# EAGLE library part TEENSY_3.5_PTH (library halcyonmod_Teensy)
Teensy 3.5 board, showing all pins that are "thru hole".
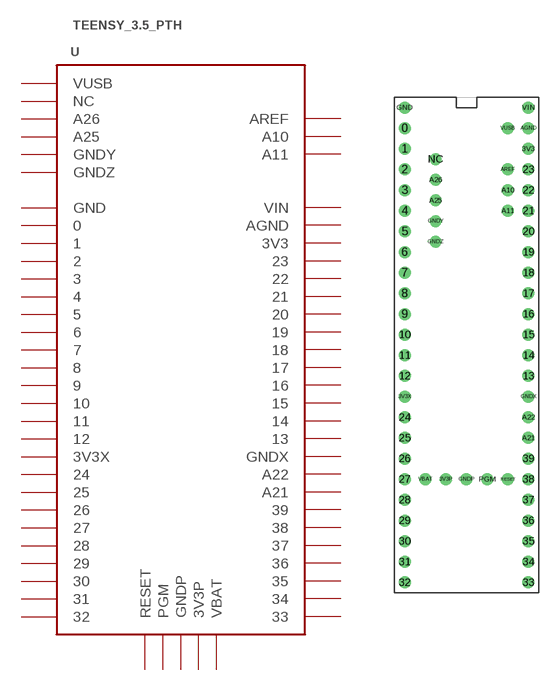
[diagram p0: symbol with the pads of TEENSY_3.5_PTH; footprint TEENSY_3.5_PTH]

Designator prefix -

## TEENSY_3.5_PTH  [TEENSY_3.5_PTH]
0  0
1  1
2  2
3  3
3V3  3V3  pwr
3V3P  3V3P  pwr
3V3X  3V3X  pwr
4  4
5  5
6  6
7  7
8  8
9  9
10  10
11  11
12  12
13  13
14  14
15  15
16  16
17  17
18  18
19  19
20  20
21  21
22  22
23  23
24  24
25  25
26  26
27  27
28  28
29  29
30  30
31  31
32  32
33  33
34  34
35  35
36  36
37  37
38  38
39  39
A10  A10
A11  A11
A21  A21
A22  A22
A25  A25
A26  A26
AGND  AGND  pwr
AREF  AREF  pwr
GND  GND  pwr
GNDP  GNDP  pwr
GNDX  GNDX  pwr
GNDY  GNDY
GNDZ  GNDZ
NC  NC
PGM  PGM
RESET  RESET
VBAT  VBAT  pwr
VIN  VIN  pwr
VUSB  VUSB  pwr

## Footprint TEENSY_3.5_PTH (pad centres in mm)
Teensy 3.5 by PJRC (PTH Holes Only Version)
drill 0.965: 0 -7.62,13.97; 1 -7.62,11.43; 2 -7.62,8.89; 3 -7.62,6.35; 3V3 7.62,11.43; 3V3P -2.54,-29.21; 3V3X -7.62,-19.05; 4 -7.62,3.81; 5 -7.62,1.27; 6 -7.62,-1.27; 7 -7.62,-3.81; 8 -7.62,-6.35; 9 -7.62,-8.89; 10 -7.62,-11.43; 11 -7.62,-13.97; 12 -7.62,-16.51; 13 7.62,-16.51; 14 7.62,-13.97; 15 7.62,-11.43; 16 7.62,-8.89; 17 7.62,-6.35; 18 7.62,-3.81; 19 7.62,-1.27; 20 7.62,1.27; 21 7.62,3.81; 22 7.62,6.35; 23 7.62,8.89; 24 -7.62,-21.59; 25 -7.62,-24.13; 26 -7.62,-26.67; 27 -7.62,-29.21; 28 -7.62,-31.75; 29 -7.62,-34.29; 30 -7.62,-36.83; 31 -7.62,-39.37; 32 -7.62,-41.91; 33 7.62,-41.91; 34 7.62,-39.37; 35 7.62,-36.83; 36 7.62,-34.29; 37 7.62,-31.75; 38 7.62,-29.21; 39 7.62,-26.67; A10 5.08,6.35; A11 5.08,3.81; A21 7.62,-24.13; A22 7.62,-21.59; A25 -3.81,5.08; A26 -3.81,7.62; AGND 7.62,13.97; AREF 5.08,8.89; GND -7.62,16.51; GNDP 0,-29.21; GNDX 7.62,-19.05; GNDY -3.81,2.54; GNDZ -3.81,0; NC -3.81,10.16; PGM 2.54,-29.21; RESET 5.08,-29.21; VBAT -5.08,-29.21; VIN 7.62,16.51; VUSB 5.08,13.97